# Altium schematic symbol library PolarCapacitor.Schlib: 1 symbol
Pins are listed as number, name and electrical type; pins without a type are passive.

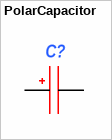
[diagram p0: symbol PolarCapacitor]

## PolarCapacitor
designator C?  (value not drawn)
Полярный конденсатор
pins: 1, 2